# Altium schematic symbol library 35318-0420.SchLib: 1 symbol
Pins are listed as number, name and electrical type; pins without a type are passive.

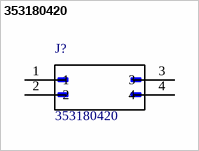
[diagram p0: symbol 353180420]

## 353180420
designator J?
Value: *
footprint *MOLEX_353180420
pins: 1, 2, 3, 4